# EAGLE library part 25AA02E48-SOT-23-6 (library 25AA02E48)
25AA02E48 2K SPI Bus Serial EEPROM With Unique Ethernet MAC Address Density: 2 Kbit (x8) Max. Clock Freq.: 10 MHz Page Size (bytes): 16 Endurance: 1,000,000 Op. Volt Range (V): 1.8 to 5.5 Temp Range (°C): -40°C to +85°C
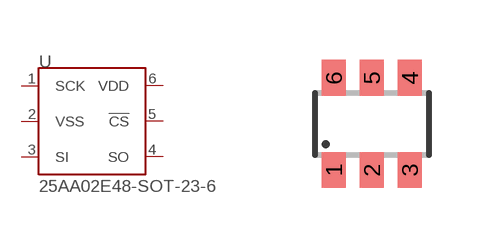
[diagram p1: symbol with the pads of SOT23-6; footprint SOT23-6]

Designator prefix -

## 25AA02E48-SOT-23-6  [SOT23-6]
1  SCK
2  VSS
3  SI
4  SO
5  !CS
6  VDD

## Footprint SOT23-6 (pad centres in mm)
Small Outline Transistor 6 lead
smd 0.6 x 0.9: 1 -0.95,-1.15; 2 0,-1.15; 3 0.95,-1.15; 4 0.95,1.15; 5 0,1.15; 6 -0.95,1.15